# Altium schematic symbol library Conn_JST_B3B-PH-SM4-TB_LF_SN_eec.SchLib: 1 symbol
Pins are listed as number, name and electrical type; pins without a type are passive.

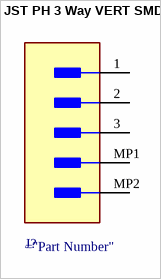
[diagram p0: symbol JST PH 3 Way VERT SMD]

## JST PH 3 Way VERT SMD
designator J?  (value not drawn)
pins: 1, 2, 3, MP1 MNT 1, MP2 MNT 2